# Altium schematic symbol library Schlib1.SchLib: 22 symbols
Pins are listed as number, name and electrical type; pins without a type are passive.

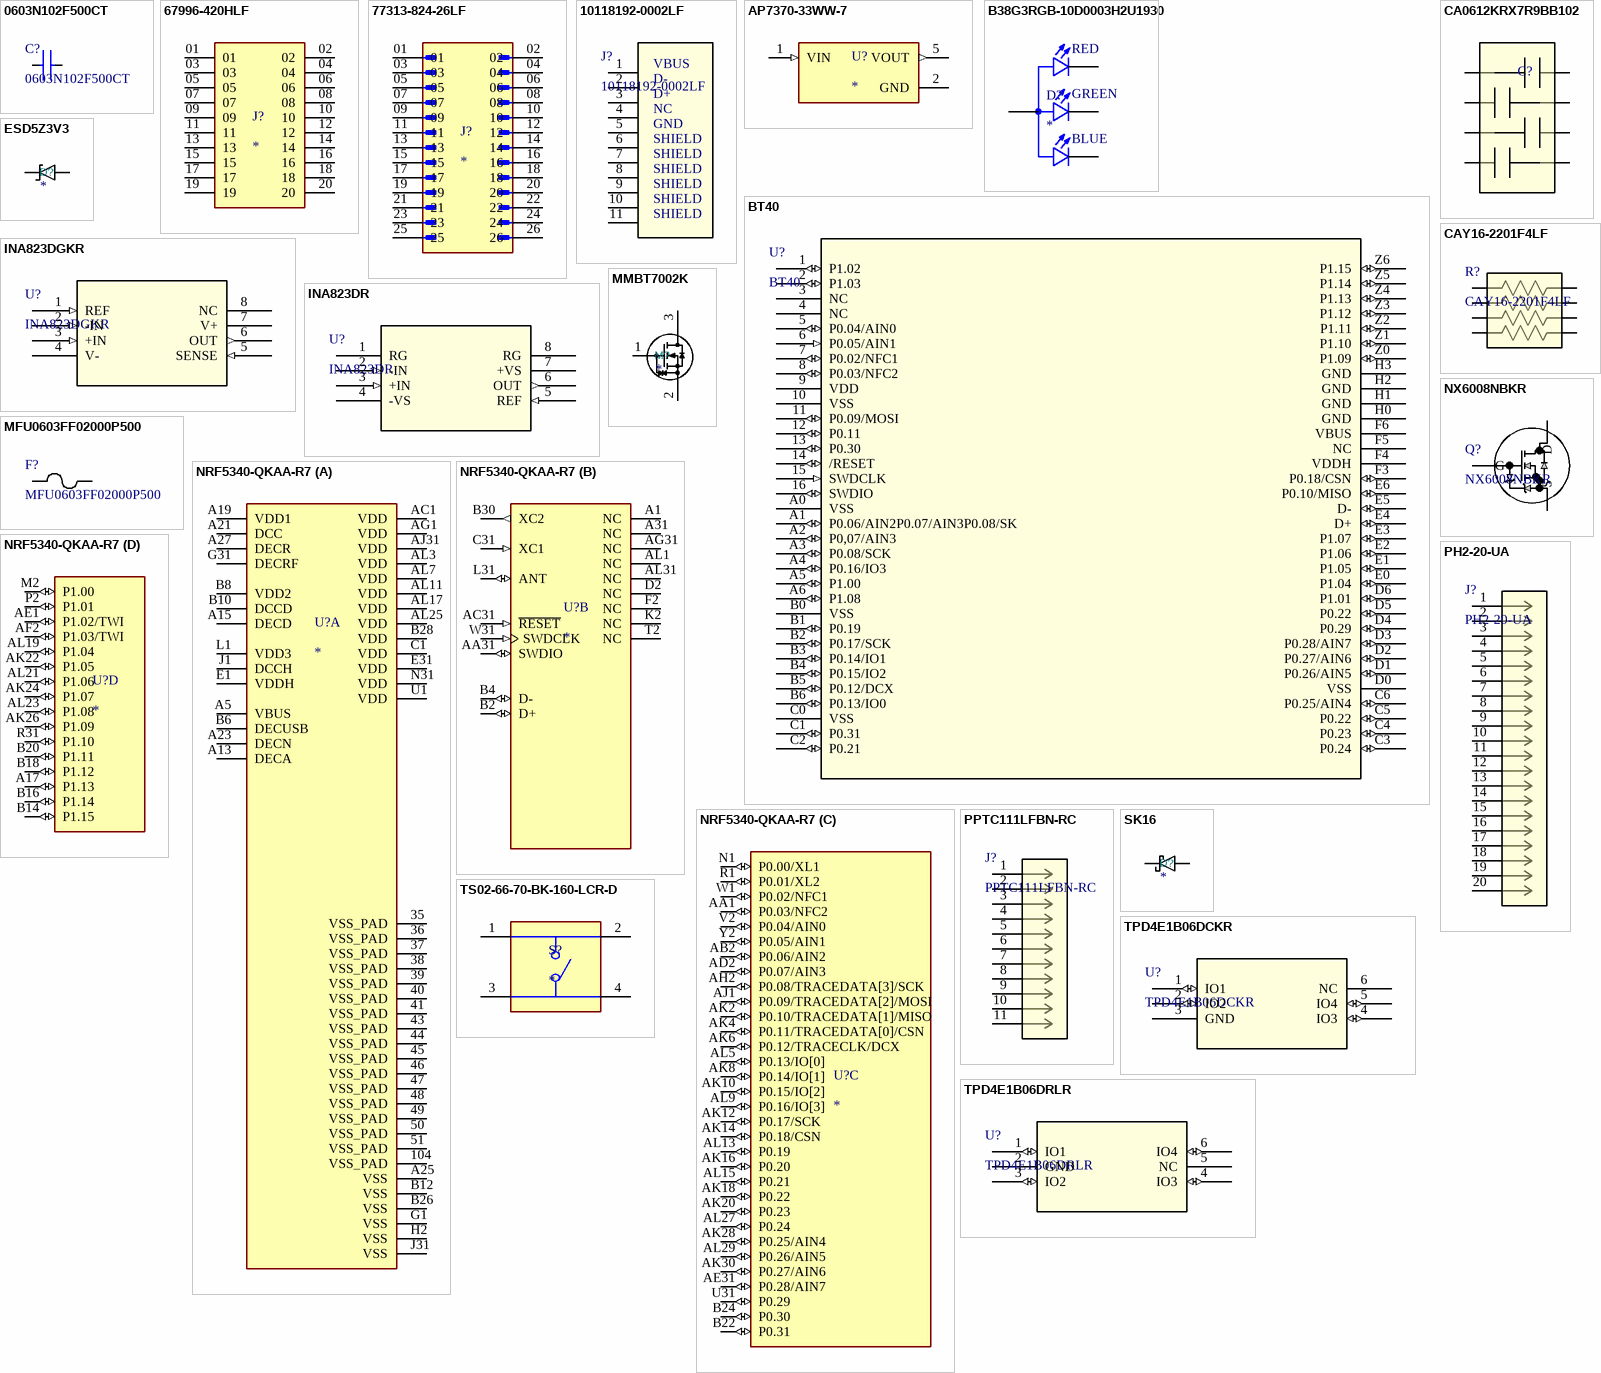
[diagram p0: symbols 0603N102F500CT to TS02-66-70-BK-160-LCR-D]

## 0603N102F500CT
designator C?
No Description Available; Mfr_Name: Walsin; Type: DEV; Copyright: Copyright (C) 2023 Ultra Librarian. All rights reserved.; Manufacturer_Part_Number: 0603N102F500CT; RefDes: RefDes
footprint CAP_0603_S_WAL
pins: 1, 2

## 67996-420HLF
designator J?
BergStikÂ®, Board to Board connector, Unshrouded vertical header, Through Hole, Double Row, 20 Positions, 2.54 mm (0.100in) Pitch; MF: Amphenol ICC; MP: 67996-420HLF; Availability: In Stock; Check_prices: https://www.snapeda.com/parts/67996-420HLF/Amphenol+FCI/view-part/?ref=eda; Package: None; Price: None; Purchase-URL: https://pricing.snapeda.com/search/part/67996-420HLF/?ref=eda; SnapEDA_Link: https://www.snapeda.com/parts/67996-420HLF/Amphenol+FCI/view-part/?ref=snap; Value: *
footprint AMPHENOL_67996-420HLF
pins: 01, 02, 03, 04, 05, 06, 07, 08, 09, 10, 11, 12, 13, 14, 15, 16, 17, 18, 19, 20

## 77313-824-26LF
designator J?
MF: {'manufacturer': u'Amphenol ICC (FCI)'}; MP: 77313-824-26LF; Package: None; Price: None; Value: *; Availability: Unavailable
footprint AMPHENOL_77313-824-26LF
pins: 01, 02, 03, 04, 05, 06, 07, 08, 09, 10, 11, 12, 13, 14, 15, 16, 17, 18, 19, 20, 21, 22, 23, 24, 25, 26

## 10118192-0002LF
designator J?
No Description Available; Mfr_Name: Amphenol ICC; Copyright: Copyright (C) 2024 Ultra Librarian. All rights reserved.; Manufacturer_Part_Number: 10118192-0002LF; RefDes: RefDes; Type: DEV
footprint CONN_10118192-0002LF_AMP
pins: 1, 2, 3, 4, 5, 6, 7, 8, 9, 10, 11
text: VBUS; D-; D+; NC; GND; SHIELD

## AP7370-33WW-7
designator U?
Linear Voltage Regulator IC Positive Fixed 1 Output 300mA SOT-25; MF: Diodes Incorporated; MP: AP7370-33WW-7; Package: SOT-753 Diodes Incorporated; Price: None; Check_prices: https://www.snapeda.com/parts/AP7370-33WW-7/Diodes+Inc./view-part/?ref=eda; Value: *; SnapEDA_Link: https://www.snapeda.com/parts/AP7370-33WW-7/Diodes+Inc./view-part/?ref=snap; Availability: In Stock; Purchase-URL: https://pricing.snapeda.com/search/part/AP7370-33WW-7/?ref=eda
footprint SOT95P285X140-5N
pins: 1 VIN (in), 2 GND (power), 5 VOUT (out)

## B38G3RGB-10D0003H2U1930
designator D?
Red, Green, Blue (RGB) - LED Indication - Discrete 2V Red, 3V Green, 3V Blue 0606 (1616 Metric); MF: Harvatek Corporation; MP: B38G3RGB-10D0003H2U1930; Price: None; Purchase-URL: https://pricing.snapeda.com/search/part/B38G3RGB-10D0003H2U1930/?ref=eda; SnapEDA_Link: https://www.snapeda.com/parts/B38G3RGB-10D0003H2U1930/Harvatek/view-part/?ref=snap; Availability: In Stock; Value: *; Package: None; Check_prices: https://www.snapeda.com/parts/B38G3RGB-10D0003H2U1930/Harvatek/view-part/?ref=eda
footprint LED_B38G3RGB-10D0003H2U1930
pins: 1 G_C, 2 B_C, 3 A, 4 R_C
text: RED; GREEN; BLUE

## BT40
designator U?
No Description Available; Mfr_Name: Fanstel; Type: RF; Copyright: Copyright (C) 2023 Ultra Librarian. All rights reserved.; Manufacturer_Part_Number: BT40; RefDes: RefDes
footprint BT40E_FAN_FNL
pins: 1 P1.02 (io), 2 P1.03 (io), 3 NC, 4 NC, 5 P0.04/AIN0 (io), 6 P0.05/AIN1 (in), 7 P0.02/NFC1 (io), 8 P0.03/NFC2 (io), 9 VDD (power), 10 VSS (power), 11 P0.09/MOSI (io), 12 P0.11 (io), 13 P0.30 (io), 14 /RESET (io), 15 SWDCLK (in), 16 SWDIO (io), A0 VSS (power), A1 P0.06/AIN2P0.07/AIN3P0.08/SK (io), A2 P0,07/AIN3 (io), A3 P0.08/SCK (io), A4 P0.16/IO3 (io), A5 P1.00 (io), A6 P1.08 (io), B0 VSS (power), B1 P0.19 (io), B2 P0.17/SCK (io), B3 P0.14/IO1 (io), B4 P0.15/IO2 (io), B5 P0.12/DCX (io), B6 P0.13/IO0 (io), C0 VSS (power), C1 P0.31 (io), C2 P0.21 (io), C3 P0.24 (io), C4 P0.23 (io), C5 P0.22 (io), C6 P0.25/AIN4 (io), D0 VSS (power), D1 P0.26/AIN5 (io), D2 P0.27/AIN6 (io), D3 P0.28/AIN7 (io), D4 P0.29 (io), D5 P0.22 (io), D6 P1.01 (io), E0 P1.04 (io), E1 P1.05 (io), E2 P1.06 (io), E3 P1.07 (io), E4 D+ (io), E5 D- (io), E6 P0.10/MISO (io), F3 P0.18/CSN (io), F4 VDDH (power), F5 NC, F6 VBUS (power), H0 GND (power), H1 GND (power), H2 GND (power), H3 GND (power), Z0 P1.09 (io), Z1 P1.10 (io), Z2 P1.11 (io), Z3 P1.12 (io), Z4 P1.13 (io), Z5 P1.14 (io), Z6 P1.15 (io)

## CA0612KRX7R9BB102
designator C?  (value not drawn)
Parameter 1: *
footprint CAP_CA0612_3P2X1P6_YAG
pins: 1, 2, 3, 4, 5, 6, 7, 8

## CAY16-2201F4LF
designator R?
No Description Available; Mfr_Name: Bourns Electronics; Type: DEV; Copyright: Copyright (C) 2023 Ultra Librarian. All rights reserved.; Manufacturer_Part_Number: CAY16-2201F4LF; RefDes: RefDes
footprint CAY16_BRN
pins: 1, 2, 3, 4, 5, 6, 7, 8

## ESD5Z3V3
designator D?
ki_keywords: Zener TVS unidirectional Diode; ki_description: Zener Diode, TVS-unidirectional Diode; Datasheet: https://diotec.com/de/produktliste/Z.html
footprint SOD-523 (SMD)
pins: A, K

## INA823DGKR
designator U?
No Description Available; Mfr_Name: Texas Instruments; Copyright: Copyright (C) 2023 Ultra Librarian. All rights reserved.; Manufacturer_Part_Number: INA823DGKR; RefDes: RefDes; Type: DEV
footprint PDSO8_DGK_TEX
pins: 1 REF (in), 2 -IN (in), 3 +IN (in), 4 V- (power), 5 SENSE (in), 6 OUT (out), 7 V+ (power), 8 NC

## INA823DR
designator U?
No Description Available; Mfr_Name: Texas Instruments; Copyright: Copyright (C) 2023 Ultra Librarian. All rights reserved.; Manufacturer_Part_Number: INA823DR; RefDes: RefDes; Type: DEV
footprint D0008A_SOIC_TEX
pins: 1 RG, 2 -IN (in), 3 +IN (in), 4 -VS (power), 5 REF (in), 6 OUT (out), 7 +VS (power), 8 RG

## MFU0603FF02000P500
designator F?
No Description Available; Mfr_Name: Vishay; Type: DEV; Copyright: Copyright (C) 2024 Ultra Librarian. All rights reserved.; Manufacturer_Part_Number: MFU0603FF02000P500; RefDes: RefDes
footprint FUS_VISHAY_MFU0603_VIS
pins: 1, 2

## MMBT7002K
designator M?
ki_keywords: Power MOSFET N-MOS Gate Protected; ki_description: Symbol for Gate Protected N-Channel MOSFET; Datasheet: https://diotec.com/de/produktliste/FET.html
footprint SOT-23 (SOT23, 3-Leads, IPC Medium Density, TO-236)
pins: 1 G, 2 S, 3 D

## NRF5340-QKAA-R7
designator U?
RF System on a Chip - SoC Dual-core Bluetooth 5.2 SoC supporting Bluetooth Low Energy, Bluetooth mesh, NFC, Thread, and Zigbee; MP: NRF5340-QKAA-R7; MF: Nordic Semiconductor ASA; Purchase-URL: https://pricing.snapeda.com/search/part/NRF5340-QKAA-R7/?ref=eda; Package: None; Check_prices: https://www.snapeda.com/parts/NRF5340-QKAA-R7/Nordic+Semiconductor+ASA/view-part/?ref=eda; Price: None; SnapEDA_Link: https://www.snapeda.com/parts/NRF5340-QKAA-R7/Nordic+Semiconductor+ASA/view-part/?ref=snap; Availability: In Stock; Value: *
footprint XCVR_NRF5340-QKAA-R7
part A pins: 35 VSS_PAD (power), 36 VSS_PAD (power), 37 VSS_PAD (power), 38 VSS_PAD (power), 39 VSS_PAD (power), 40 VSS_PAD (power), 41 VSS_PAD (power), 43 VSS_PAD (power), 44 VSS_PAD (power), 45 VSS_PAD (power), 46 VSS_PAD (power), 47 VSS_PAD (power), 48 VSS_PAD (power), 49 VSS_PAD (power), 50 VSS_PAD (power), 51 VSS_PAD (power), 104 VSS_PAD (power), A5 VBUS (power), A13 DECA (power), A15 DECD (power), A19 VDD1 (power), A21 DCC (power), A23 DECN (power), A25 VSS (power), A27 DECR (power), AC1 VDD (power), AG1 VDD (power), AJ31 VDD (power), AL3 VDD (power), AL7 VDD (power), AL11 VDD (power), AL17 VDD (power), AL25 VDD (power), B6 DECUSB (power), B8 VDD2 (power), B10 DCCD (power), B12 VSS (power), B26 VSS (power), B28 VDD (power), C1 VDD (power), E1 VDDH (power), E31 VDD (power), G1 VSS (power), G31 DECRF (power), H2 VSS (power), J1 DCCH (power), J31 VSS (power), L1 VDD3 (power), N31 VDD (power), U1 VDD (power)
part B pins: A1 NC, A31 NC, AA31 SWDIO (io), AC31 ~{RESET} (in), AG31 NC, AL1 NC, AL31 NC, B2 D+ (io), B4 D- (io), B30 XC2 (out), C31 XC1 (in), D2 NC, F2 NC, K2 NC, L31 ANT (io), T2 NC, W31 SWDCLK (in)
part C pins: AA1 P0.03/NFC2 (io), AB2 P0.06/AIN2 (io), AD2 P0.07/AIN3 (io), AE31 P0.28/AIN7 (io), AH2 P0.08/TRACEDATA[3]/SCK (io), AJ1 P0.09/TRACEDATA[2]/MOSI (io), AK2 P0.10/TRACEDATA[1]/MISO (io), AK4 P0.11/TRACEDATA[0]/CSN (io), AK6 P0.12/TRACECLK/DCX (io), AK8 P0.14/IO[1] (io), AK10 P0.15/IO[2] (io), AK12 P0.17/SCK (io), AK14 P0.18/CSN (io), AK16 P0.20 (io), AK18 P0.22 (io), AK20 P0.23 (io), AK28 P0.25/AIN4 (io), AK30 P0.27/AIN6 (io), AL5 P0.13/IO[0] (io), AL9 P0.16/IO[3] (io), AL13 P0.19 (io), AL15 P0.21 (io), AL27 P0.24 (io), AL29 P0.26/AIN5 (io), B22 P0.31 (io), B24 P0.30 (io), N1 P0.00/XL1 (io), R1 P0.01/XL2 (io), U31 P0.29 (io), V2 P0.04/AIN0 (io), W1 P0.02/NFC1 (io), Y2 P0.05/AIN1 (io)
part D pins: A17 P1.13 (io), AE1 P1.02/TWI (io), AF2 P1.03/TWI (io), AK22 P1.05 (io), AK24 P1.07 (io), AK26 P1.09 (io), AL19 P1.04 (io), AL21 P1.06 (io), AL23 P1.08 (io), B14 P1.15 (io), B16 P1.14 (io), B18 P1.12 (io), B20 P1.11 (io), M2 P1.00 (io), P2 P1.01 (io), R31 P1.10 (io)

## NX6008NBKR
designator Q?
No Description Available; Mfr_Name: Nexperia; Type: DEV; Copyright: Copyright (C) 2023 Ultra Librarian. All rights reserved.; Manufacturer_Part_Number: NX6008NBKR; RefDes: RefDes
footprint NX6008NBKR_NEX
pins: 1 G, 2 S, 3 D

## PH2-20-UA
designator J?
No Description Available; Mfr_Name: ADAM TECHNOLOGIES INC; Type: DEV; Copyright: Copyright (C) 2024 Ultra Librarian. All rights reserved.; Manufacturer_Part_Number: PH2-20-UA; RefDes: RefDes
footprint CONN_PH2-20-UA_ADM
pins: 1, 2, 3, 4, 5, 6, 7, 8, 9, 10, 11, 12, 13, 14, 15, 16, 17, 18, 19, 20

## PPTC111LFBN-RC
designator J?
No Description Available; Mfr_Name: Sullins; Type: DEV; Copyright: Copyright (C) 2023 Ultra Librarian. All rights reserved.; Manufacturer_Part_Number: PPTC111LFBN-RC; RefDes: RefDes
footprint CONN11_PPPN111_SUL
pins: 1, 2, 3, 4, 5, 6, 7, 8, 9, 10, 11

## SK16
designator D?
ki_keywords: Schottky; ki_description: Schottky Diode; Datasheet: https://diotec.com/de/produktliste/SBD.html
footprint DO-214AC_SMA
pins: A, K

## TPD4E1B06DCKR
designator U?
No Description Available; Mfr_Name: Texas Instruments; Copyright: Copyright (C) 2023 Ultra Librarian. All rights reserved.; Manufacturer_Part_Number: TPD4E1B06DCKR; RefDes: RefDes; Type: DEV
footprint DCK6_TEX
pins: 1 IO1 (io), 2 IO2 (io), 3 GND (power), 4 IO3 (io), 5 IO4 (io), 6 NC

## TPD4E1B06DRLR
designator U?
No Description Available; Mfr_Name: Texas Instruments; Copyright: Copyright (C) 2023 Ultra Librarian. All rights reserved.; Manufacturer_Part_Number: TPD4E1B06DRLR; RefDes: RefDes; Type: DEV
footprint DRL6_TEX
pins: 1 IO1 (io), 2 GND (power), 3 IO2 (io), 4 IO3 (io), 5 NC, 6 IO4 (io)

## TS02-66-70-BK-160-LCR-D
designator S?
6 x 6 mm, 7 mm Actuator Height, 160 gf, Black, Long Crimped, Through Hole, SPST, Tactile Switch; MF: CUI Devices; MP: TS02-66-70-BK-160-LCR-D; Check_prices: https://www.snapeda.com/parts/TS02-66-70-BK-160-LCR-D/CUI+Devices/view-part/?ref=eda; CUI_purchase_URL: https://www.cuidevices.com/product/switches/tactile-switches/ts02-series?utm_source=snapeda.com&utm_medium=referral&utm_campaign=snapedaBOM; Package: None; Price: None; Value: *; Purchase-URL: https://pricing.snapeda.com/search/part/TS02-66-70-BK-160-LCR-D/?ref=eda; Availability: In Stock; SnapEDA_Link: https://www.snapeda.com/parts/TS02-66-70-BK-160-LCR-D/CUI+Devices/view-part/?ref=snap
footprint SW_TS02-66-70-BK-160-LCR-D
pins: 1, 2, 3, 4